# Altium schematic symbol library LEDS.SchLib: 24 symbols
Pins are listed as number, name and electrical type; pins without a type are passive.

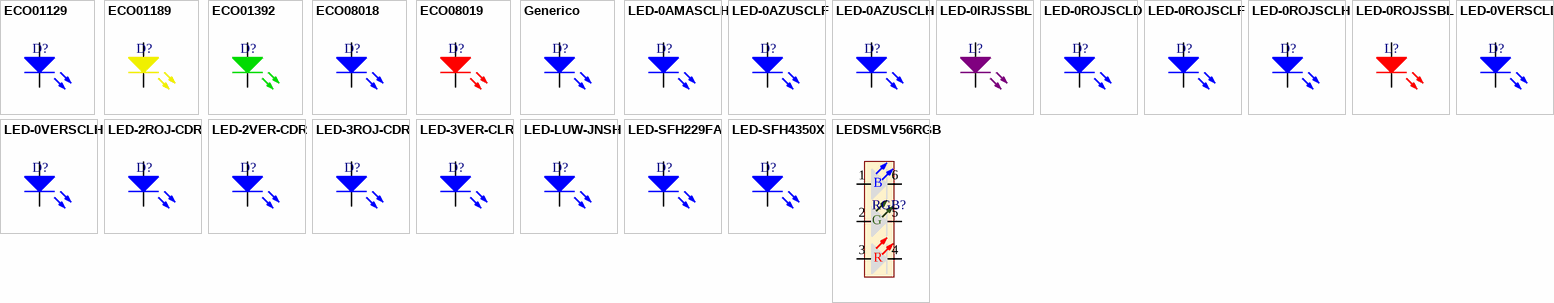
[diagram p0: symbols ECO01129 to LEDSMLV56RGB]

## ECO01129
designator D?
Green - LED Indication - Discrete 2.2V Radial; Manufacturer Part Number: SSL-LX20465GD; Manufacturer: Lumex Opto/Components Inc.; Working Temperature: ND; Temperature Coefficient: NC; Short Description: LED GREEN DIFF T-2MM TAPER T/H; Ratings: REACH, ROHS3; Frequency: 565nm; Current: 20mA; Mounting: THT; Power: NC; Type: LED; Alternate Part Number 1: *; Alternate Part Number 2: *; Tolerance: NC; Revision Date: 20/08/21; Package Reference: Radial; Voltage: 2.2V; Value: GREEN
footprint RADIAL-2.54MM (Footprint not found)
pins: 1 K, 2 A

## ECO01189
designator D?
Yellow - LED Indication - Discrete 2.1V Radial; Manufacturer Part Number: SSL-LX2573SYD; Manufacturer: Lumex Opto/Components Inc.; Working Temperature: ND; Temperature Coefficient: NC; Short Description: LED YELLOW DIFF RECT 2MMX3MM T/H; Ratings: REACH, ROHS3; Frequency: 590nm; Current: 20mA; Mounting: THT; Power: NC; Type: LED; Alternate Part Number 1: *; Alternate Part Number 2: *; Tolerance: NC; Revision Date: 20/08/21; Package Reference: Radial; Voltage: 2.1V; Value: YELLOW
footprint RADIAL-2.54MM
pins: 1 K, 2 A

## ECO01392
designator D?
Green - LED Indication - Discrete 2.1V Radial; Manufacturer Part Number: SSL-LX2573SUGD; Manufacturer: Lumex Opto/Components Inc.; Working Temperature: ND; Temperature Coefficient: NC; Short Description: LED GREEN CLEAR RECT 2MMX3MM T/H; Ratings: REACH, ROHS3; Frequency: 574nm; Current: 20mA; Mounting: THT; Power: NC; Type: LED; Alternate Part Number 1: *; Alternate Part Number 2: *; Tolerance: NC; Revision Date: 20/08/21; Package Reference: Radial; Voltage: 2.1V; Value: GREEN
footprint RADIAL-2.54MM
pins: 1 K, 2 A

## ECO08018
designator D?
Red - LED Indication - Discrete 2V Radial; Manufacturer Part Number: SSL-LX20465ID; Manufacturer: Lumex Opto/Components Inc.; Working Temperature: ND; Temperature Coefficient: NC; Short Description: LED RED DIFF T-2MM TAPER T/H; Ratings: REACH, ROHS3; Frequency: 635nm; Current: 20mA; Mounting: THT; Power: NC; Type: LED; Alternate Part Number 1: *; Alternate Part Number 2: *; Tolerance: NC; Revision Date: 20/08/21; Package Reference: Radial; Voltage: 2V; Value: RED
footprint RADIAL-2.54MM
pins: 1 K, 2 A

## ECO08019
designator D?
Red - LED Indication - Discrete 1.7V Radial; Manufacturer Part Number: SSL-LX2573SRD; Manufacturer: Lumex Opto/Components Inc.; Working Temperature: ND; Temperature Coefficient: NC; Short Description: LED RED DIFF RECT 2MMX5MM T/H; Ratings: REACH, ROHS3; Frequency: 660nm; Current: 20mA; Mounting: THT; Power: NC; Type: LED; Alternate Part Number 1: *; Alternate Part Number 2: *; Tolerance: NC; Revision Date: 20/08/21; Package Reference: Radial; Voltage: 1.7V; Value: RED
footprint RADIAL-2.54MM
pins: 1 K, 2 A

## Generico
designator D?
Manufacturer Part Number: *; Working Temperature: *; Temperature Coefficient: *; Mounting: *; Short Description: *; Power: *; Ratings: *; Type: *; Frequency: *; Alternate Part Number 1: *; Alternate Part Number 2: *; Manufacturer: *; Tolerance: *; Current: *; Revision Date: *; Package Reference: *; Voltage: *; Value: *
pins: 1 K, 2 A

## LED-0AMASCLH
designator D?
Yellow 590nm LED Indication - Discrete 2V 1206 (3216 Metric); Manufacturer Part Number: APTL3216SYCK; Manufacturer: Kingbright; Working Temperature: NC; Short Description: LED YELLOW CLEAR CHIP SMD; Ratings: REACH, ROHS3; Current: 20mA; Temperature Coefficient: NC; Mounting: SMT; Power: NC; Type: LED; Frequency: 590nm; Alternate Part Number 2: *; Tolerance: NC; Revision Date: 04/08/21; Package Reference: 1206; Voltage: 2V; Value: YELLOW
footprint LED-1206
pins: 1 K, 2 A

## LED-0AZUSCLF
designator D?
Blue 470nm LED Indication - Discrete 3.3V 0805 (2012 Metric); Manufacturer Part Number: LTST-C170TBKT; Manufacturer: Lite-On Inc.; Working Temperature: NC; Short Description: LED BLUE CLEAR SMD; Ratings: ROHS3; Frequency: 468nm; Current: 20mA; Temperature Coefficient: NC; Mounting: SMT; Power: NC; Type: LED; Alternate Part Number 2: *; Tolerance: NC; Revision Date: 04/08/21; Package Reference: 0805; Voltage: 3.3V; Value: BLUE
footprint LED-0805
pins: 1 K, 2 A

## LED-0AZUSCLH
designator D?
Blue 465nm LED Indication - Discrete 3.3V 1206 (3216 Metric); Manufacturer Part Number: APTL3216QBC/D; Manufacturer: Kingbright; Working Temperature: NC; Short Description: LED BLUE CLEAR CHIP SMD; Ratings: REACH, ROHS3; Frequency: 460nm; Current: 20mA; Temperature Coefficient: NC; Mounting: SMT; Power: NC; Type: LED; Alternate Part Number 2: *; Tolerance: NC; Revision Date: 04/08/21; Package Reference: 1206; Voltage: 3.3V; Value: BLUE
footprint LED-1206
pins: 1 K, 2 A

## LED-0IRJSSBL
designator L?  (value not drawn)
Emisores Infrarrojos - Alta Potencia IR 850nm, 90deg; Manufacturer Part Number: SFH 4715AS; Alternate Part Number 1: SFH 4715AS-EA; Manufacturer: ams OSRAM; Working Temperature: - 40 - 125°C; Intensidad radiante: 780 mW/sr; Short Description: LED IR CLEAR 850 mm CHIP SMD; Power: 5.8W; Ratings: REACH, ROHS3; Type: LED; Ángulo de visualización: 45 deg; Current: 1A; Voltage: 3.2V; Mounting: SMT; Frequency: 850nm; Alternate Part Number 2: *; Revision Date: 14/09/22; Package Reference: 1414 (3535 METRIC); Value: IR
footprint LED IR  1414 (3535 METRIC) (EMITTER IR 850NM 3SMD)
pins: 1 A, 2 K

## LED-0ROJSCLD
designator D?
Red 631nm LED Indication - Discrete 2V 0603 (1608 Metric); Manufacturer Part Number: LTST-C191KRKT; Manufacturer: Lite-On Inc.; Working Temperature: ND; Temperature Coefficient: NC; Short Description: LED RED CLEAR SMD; Ratings: ROHS3; Current: 20mA; Mounting: SMT; Power: NC; Type: LED; Frequency: 631nm; Alternate Part Number 1: *; Alternate Part Number 2: *; Tolerance: NC; Revision Date: 02/09/21; Package Reference: 0603; Voltage: 2V; Value: RED
footprint LED-0603
pins: 1 K, 2 A

## LED-0ROJSCLF
designator D?
Red 631nm LED Indication - Discrete 2V 0805 (2012 Metric); Manufacturer Part Number: LTST-C170KRKT; Manufacturer: Lite-On Inc.; Working Temperature: NC; Short Description: LED RED CLEAR SMD; Ratings: ROHS3; Frequency: 639nm; Current: 20mA; Temperature Coefficient: NC; Mounting: SMT; Power: NC; Type: LED; Alternate Part Number 2: *; Tolerance: NC; Revision Date: 04/08/21; Package Reference: 0805; Voltage: 2V; Value: RED
footprint LED-0805
pins: 1 K, 2 A

## LED-0ROJSCLH
designator D?
Red 630nm LED Indication - Discrete 1.95V 1206 (3216 Metric); Manufacturer Part Number: APTL3216SURCK; Manufacturer: Kingbright; Working Temperature: NC; Short Description: LED RED CLEAR CHIP SMD; Ratings: REACH, ROHS3; Frequency: 645nm; Current: 20mA; Temperature Coefficient: NC; Mounting: SMT; Power: NC; Type: LED; Alternate Part Number 2: *; Tolerance: NC; Revision Date: 04/08/21; Package Reference: 1206; Voltage: 1.95V; Value: RED
footprint LED-1206
pins: 1 K, 2 A

## LED-0ROJSSBL
designator L?  (value not drawn)
LED de alta energía - de un solo color RED, 80.6lm, 630nm; Manufacturer Part Number: XPEBRD-L1-0000-00901; Alternate Part Number 1: XPEBRD-L1-0000-00902; Manufacturer: CREE LED; Temperature Coefficient: -40 - 150°C; Short Description: LED RED CLEAR CHIP SMD; Power: 3W; Ratings: REACH, ROHS3; Ángulo de visualización: 70 deg; Current: 1A; Voltage: 2.2V; Flujo luminoso/Flujo Radiante: 80.6 lm; Mounting: SMT; Type: LED; Frequency: 630nm; Alternate Part Number 2: *; Revision Date: 14/09/22; Package Reference: 1414 (3535 METRIC); Value: RED
footprint 1414 (3535 METRIC) (LED XLAMP XP-E RED SMD)
pins: 1 A, 2 K

## LED-0VERSCLD
designator D?
Green 571nm LED Indication - Discrete 2V 0603 (1608 Metric); Manufacturer Part Number: LTST-C191KGKT; Manufacturer: Lite-On Inc.; Working Temperature: ND; Temperature Coefficient: NC; Short Description: LED GREEN CLEAR SMD; Ratings: REACH, ROHS3; Current: 20mA; Mounting: SMT; Power: NC; Type: LED; Frequency: 571nm; Alternate Part Number 1: *; Alternate Part Number 2: *; Tolerance: NC; Revision Date: 02/09/21; Package Reference: 0603; Voltage: 2V; Value: GREEN
footprint LED-0603
pins: 1 K, 2 A

## LED-0VERSCLH
designator D?
Green 525nm LED Indication - Discrete 3.3V 1206 (3216 Metric); Manufacturer Part Number: APTL3216ZGC; Manufacturer: Kingbright; Working Temperature: NC; Short Description: LED GREEN CLEAR CHIP SMD; Ratings: REACH, ROHS3; Frequency: 515nm; Current: 20mA; Temperature Coefficient: NC; Mounting: SMT; Power: NC; Type: LED; Alternate Part Number 2: *; Tolerance: NC; Revision Date: 04/08/21; Package Reference: 1206; Voltage: 3.3V; Value: GREEN
footprint LED-1206
pins: 1 K, 2 A

## LED-2ROJ-CDR
designator D?
Red - LED Indication - Discrete 2.2V Radial; Manufacturer Part Number: LN222RPH; Manufacturer: Panasonic Electronic Components; Working Temperature: NC; Short Description: LED RED 2MM ROUND T/H; Frequency: 700nm; Current: 20mA; Temperature Coefficient: NC; Mounting: THT; Power: NC; Ratings: *; Type: LED; Alternate Part Number 2: *; Tolerance: NC; Revision Date: 04/08/21; Package Reference: Radial; Voltage: 2.2V; Value: RED
footprint RADIAL-2.54MM
footprint RADIAL-2.54MM - Small
pins: 1 K, 2 A

## LED-2VER-CDR
designator D?
Green - LED Indication - Discrete 2.2V Radial; Manufacturer Part Number: LN322GP; Manufacturer: Panasonic Electronic Components; Working Temperature: NC; Short Description: LED GREEN DIFFUSED 2MM T/H; Frequency: 565nm; Current: 20mA; Temperature Coefficient: NC; Mounting: THT; Power: NC; Ratings: *; Type: LED; Alternate Part Number 2: *; Tolerance: NC; Revision Date: 04/08/21; Package Reference: Radial; Voltage: 2.2V; Value: GREEN
footprint RADIAL-2.54MM
footprint RADIAL-2.54MM - Small
pins: 1 K, 2 A

## LED-3ROJ-CDR
designator D?
Red 650nm LED Indication - Discrete 2.1V Radial; Manufacturer Part Number: MT1403-RG-A; Manufacturer: Marktech Optoelectronics; Working Temperature: NC; Short Description: LED RED CLEAR 3.0MM ROUND T/H; Ratings: ROHS; Frequency: 700nm; Current: 20mA; Temperature Coefficient: NC; Mounting: THT; Power: NC; Type: LED; Alternate Part Number 2: *; Tolerance: NC; Revision Date: 04/08/21; Package Reference: Radial; Voltage: 2.1V; Value: RED
footprint RADIAL-2.54MM
footprint RADIAL-2.54MM - Small
pins: 1 K, 2 A

## LED-3VER-CLR
designator D?
Green - LED Indication - Discrete 2.2V Radial; Manufacturer Part Number: LN38GCPX; Manufacturer: Panasonic Electronic Components; Working Temperature: NC; Short Description: LED GREEN CLEAR 3MM T/H; Frequency: 565nm; Current: 20mA; Temperature Coefficient: NC; Mounting: THT; Power: NC; Ratings: *; Type: LED; Alternate Part Number 2: *; Tolerance: NC; Revision Date: 04/08/21; Package Reference: Radial; Voltage: 2.2V; Value: GREEN
footprint RADIAL-2.54MM
footprint RADIAL-2.54MM - Small (Footprint not found)
pins: 1 K, 2 A

## LED-LUW-JNSH
designator D?
LED Lighting series White, Cool 6500K 3.05V 20mA 110° 2-SMD, J-Lead; Manufacturer Part Number: LUW JNSH.EC-BTCP-5C8E-1-20-R18; Manufacturer: OSRAM Opto Semiconductors Inc.; Working Temperature: NC; Short Description: LED DURIS E3 COOL WHT 6500K 2SMD; Ratings: REACH, ROHS3; Frequency: ND; Temperature Coefficient: NC; Mounting: SMT; Power: NC; Type: LED; Alternate Part Number 2: *; Tolerance: NC; Current: 20mA; Revision Date: 04/08/21; Package Reference: SMD-2_LED; Voltage: 3.05V; Value: WHITE
footprint SMD-2_LED (Footprint not found)
pins: 1 K, 2 A

## LED-SFH229FA
designator D?
Photodiode 900nm 10ns 34° Radial; Manufacturer Part Number: SFH 229FA; Manufacturer: OSRAM Opto Semiconductors Inc.; Working Temperature: -40°C ~ 100°C; Temperature Coefficient: NC; Short Description: SENSOR PHOTODIODE 900NM RADIAL; Ratings: REACH, ROHS3; Current: 50pA; Voltage: 20V; Value: 730nm ~ 1100nm; Mounting: THT; Power: NC; Type: Photodiode; Frequency: 900nm; Alternate Part Number 2: *; Tolerance: NC; Revision Date: 04/08/21; Package Reference: Radial
footprint RADIAL-2.54MM
footprint RADIAL-2.54MM - Small
pins: 1 K, 2 A

## LED-SFH4350X
designator D?
Infrared (IR) Emitter 860nm 1.5V 100mA 200mW/sr @ 100mA 26° Radial; Manufacturer: OSRAM Opto Semiconductors Inc.; Working Temperature: -40°C ~ 100°C; Temperature Coefficient: NC; Short Description: EMITTER IR 860NM 100MA RADIAL; Ratings: REACH, ROHS3; Manufacturer Part Number: SFH 4350; Mounting: THT; Power: NC; Type: Infrared; Frequency: 860nm; Alternate Part Number 2: *; Tolerance: NC; Current: 100mA; Revision Date: 04/08/21; Package Reference: Radial; Voltage: 1.5V; Value: 200mW/sr @ 100mA
footprint RADIAL-2.54MM
footprint RADIAL-2.54MM - Small
pins: 1 K, 2 A

## LEDSMLV56RGB
designator RGB?
Red, Green, Blue (RGB) 624nm Red, 527nm Green, 470nm Blue LED Indication - Discrete 2.1V Red, 3.3V Green, 3.3V Blue 6-SMD, Flat Leads; Manufacturer Part Number: SMLV56RGB1W1; Manufacturer: Rohm Semiconductor; Working Temperature: NC; Short Description: LED RGB DIFFUSED 1411 SMD; Ratings: REACH, ROHS3; Current: 20mA; Temperature Coefficient: NC; Mounting: SMT; Power: NC; Type: LED; Frequency: 624nm Red, 527nm Green, 470nm Blue; Alternate Part Number 2: *; Tolerance: NC; Revision Date: 04/08/21; Package Reference: 1411; Voltage: 2.1V Red, 3.3V Green, 3.3V Blue; Value: RGB
footprint LED-1411
pins: 1 B+, 2 G+, 3 R+, 4 R-, 5 G-, 6 B-
text: B; G; R